# Altium footprint library Battery holder.PcbLib: 1 footprints
Each footprint in its own frame and in the unit in brackets; x right, y up, seen from the top. Pads: shape width x height; smd on the part's side, far side on the other; paste and mask are expansions set on the pad; w line width, h text height; cw(c..) or ccw(c..) is an arc to the next point about the centre after c.
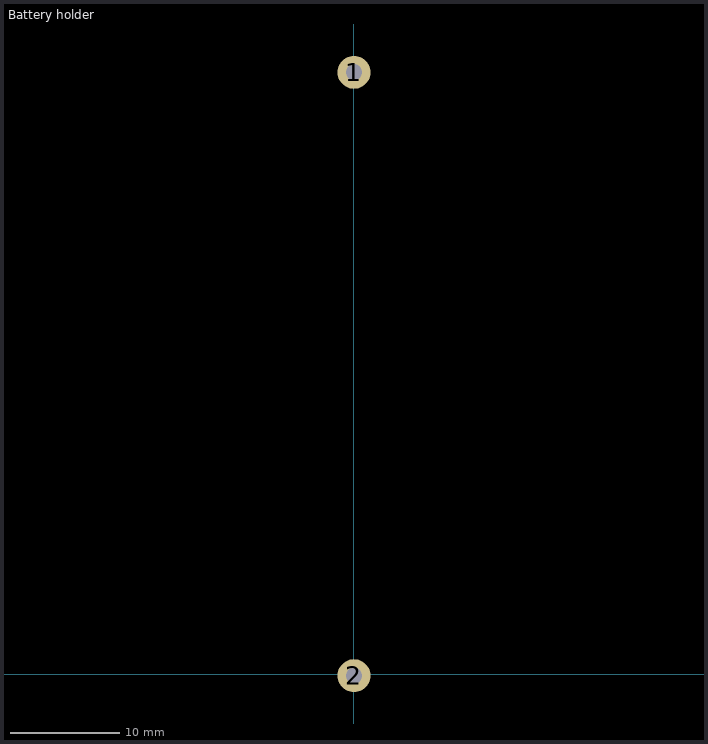
[diagram p0: the footprint, top view; thin cyan lines are the x and y axes]

## Battery holder [mm]
pads (2):
  round 3 hole 1.5: 1(0,54.737) 2(0,-0.127)
3D body "User Library-BAT_HLDR_BHAA-POL.STEP": height 21.12, standoff -3.28, extent -8.255,-2.159 8.255,56.769